# Altium schematic symbol library MMC5983MA.SchLib: 1 symbol
Pins are listed as number, name and electrical type; pins without a type are passive.

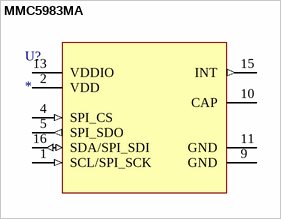
[diagram p0: symbol MMC5983MA]

## MMC5983MA
designator U?
Value: *
pins: 1 SCL/SPI_SCK (in), 2 VDD (power), 4 SPI_CS (in), 5 SPI_SDO (out), 9 GND (power), 10 CAP (power), 11 GND (power), 13 VDDIO (power), 15 INT (out), 16 SDA/SPI_SDI (io)